# EAGLE library part 6AL5 (library tubes)
TWIN DIODE
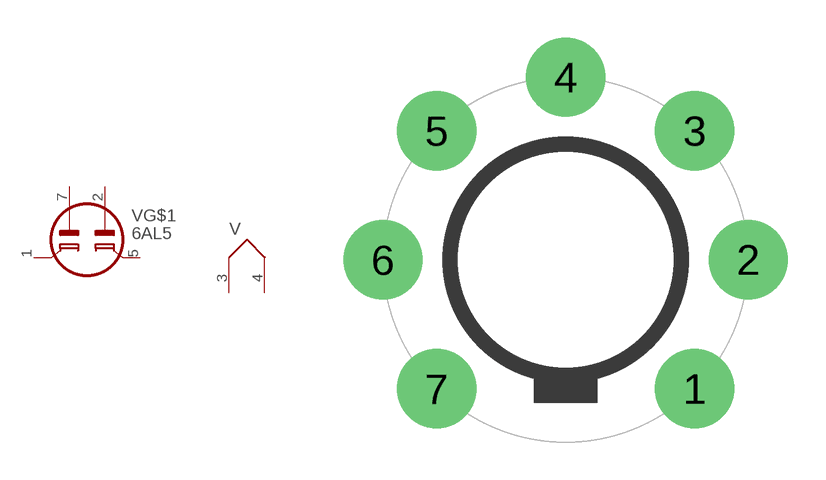
[diagram p0: symbol with the pads of SOCKET-7PIN; footprint SOCKET-7PIN]

Designator prefix V; gates G$1=TWINDIODE F=HTR

## 6AL5  [SOCKET-7PIN]
1  G$1:C1  pas
2  G$1:A2  pas
3  F:F1  pas
4  F:F2  pas
5  G$1:C2  pas
7  G$1:A1  pas

## Footprint SOCKET-7PIN (pad centres in mm)
drill 1.93 pad 3.175: 1 5.164,-5.164; 2 7.303,0; 3 5.164,5.164; 4 0,7.303; 5 -5.164,5.164; 6 -7.303,0; 7 -5.164,-5.164